# EAGLE library part SDCARD (library JoesCustom)
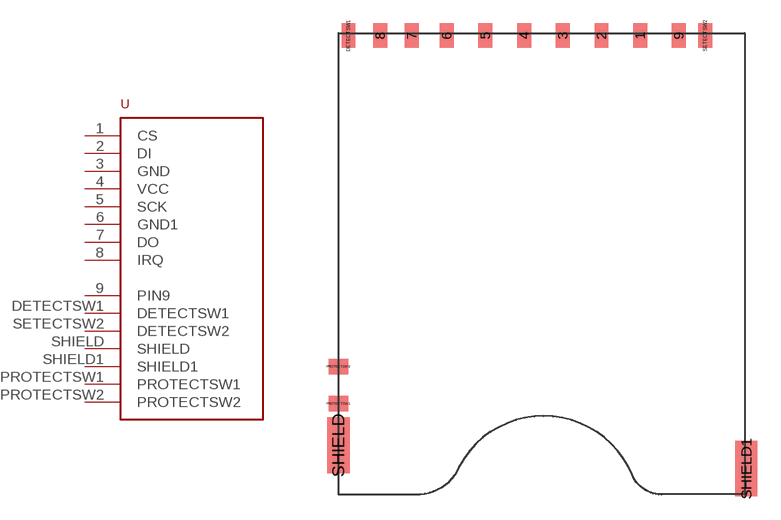
[diagram p0: symbol with the pads of SDCARDSLOT; footprint SDCARDSLOT]

Designator prefix -

## SDCARD  [SDCARDSLOT]
1  CS
2  DI
3  GND
4  VCC
5  SCK
6  GND1
7  DO
8  IRQ
9  PIN9
DETECTSW1  DETECTSW1
PROTECTSW1  PROTECTSW1
PROTECTSW2  PROTECTSW2
SETECTSW2  DETECTSW2
SHIELD  SHIELD
SHIELD1  SHIELD1

## Footprint SDCARDSLOT (pad centres in mm)
smd 0.9 x 1.6: 1 6.875,-0.8; 2 4.375,-0.8; 3 1.875,-0.8; 4 -0.625,-0.8; 5 -3.125,-0.8; 6 -5.625,-0.8; 7 -7.875,-0.8; 8 -9.925,-0.8; 9 9.375,-0.8; DETECTSW1 -11.975,-0.8; SETECTSW2 11.075,-0.8
smd 1.25 x 1: PROTECTSW1 -12.625,-24.6; PROTECTSW2 -12.625,-22.2
smd 1.45 x 3.6: SHIELD -12.625,-27.3; SHIELD1 13.725,-28.8